# EAGLE library part 742-8 (library DAWA 6.1)
CTS 742 Series 8 Terminations, 4 Resistors
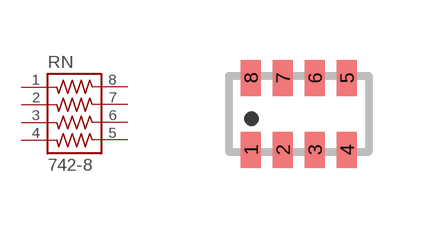
[diagram p16: symbol with the pads of 742-8NS; footprint 742-8NS]

Designator prefix RN

## 742-8NS  [742-8NS]
1  1  pas
2  2  pas
3  3  pas
4  4  pas
5  5  pas
6  6  pas
7  7  pas
8  8  pas

## Footprint 742-8NS (pad centres in mm)
CTS 742 Series 8 Terminations, 4 Resistors
smd 0.5 x 0.9: 1 -1.2,-0.9; 2 -0.4,-0.9; 3 0.4,-0.9; 4 1.2,-0.9; 5 1.2,0.9; 6 0.4,0.9; 7 -0.4,0.9; 8 -1.2,0.9